# Altium schematic symbol library WCAP-ATLL.SchLib: 209 symbols (part 5 of 5)
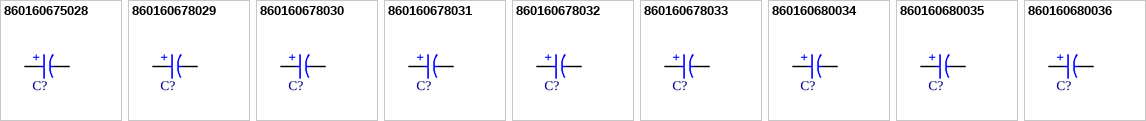
[diagram p9: symbols 860160675028 to 860160680036]

## 860160680036
designator C?, comment 1500µF  (value not drawn)
WCAP-ATLL Aluminum Electrolytic Capacitor, Radial, THT, D16 x H35.5mm, 1500µF, 50V; Manufacturer Part Number: 860160680036; Manufacturer: Wurth Elektronik; Capacitance Tolerance: +/-20%; Dissipation Factor: 10%; Endurance: 7000h; Leakage Current: 750µA; Ripple Current: 3216mA; Technical Reference: ATEK355152M050DSPADG000; Category: Aluminum Electrolytic Capacitors; Match Code: WCAP-ATLL; ComponentLink1Description: Website Link; ComponentLink1URL: https://www.we-online.com/redexpert/article/860160680036?ad; ComponentLink2Description: Datasheet Link; ComponentLink2URL: https://www.we-online.com/redexpert/spec/860160680036?ad; Mount: Through Hole; Operating Temperature Max: 105°C; Operating Temperature Min: -55°C; Packaging: Ammo Pack; Height: 35.5mm; Diameter: 16mm; Capacitance: 1500µF; Rated Voltage (DC): 50V
footprint WCAP-ATLL_D16H35.5
simulation model 860160680036_1.5mF
pins: 1 P, 2 N
text: +